# EAGLE library part LSM9DS1 (library LSM9DS1)
iNEMO inertial module: 3D accelerometer, 3D gyroscope, 3D magnetometer Source: Datasheet <https://www.st.com/resource/en/datasheet/lsm9ds1.pdf>
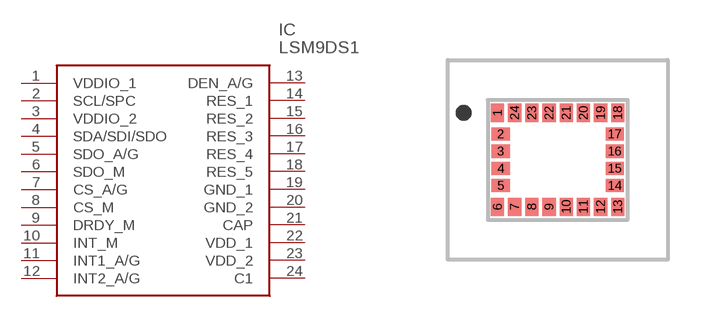
[diagram p0: symbol with the pads of LSM9DS1; footprint LSM9DS1]

Designator prefix IC

## LSM9DS1 (Description: iNEMO inertial module: 3D accelerometer, 3D gyroscope, 3D magnetometer; Height: 1.027mm; Manufacturer_Name: STMicroelectronics; Manufacturer_Part_Number: LSM9DS1)  [LSM9DS1]
1  VDDIO_1
2  SCL/SPC
3  VDDIO_2
4  SDA/SDI/SDO
5  SDO_A/G
6  SDO_M
7  CS_A/G
8  CS_M
9  DRDY_M
10  INT_M
11  INT1_A/G
12  INT2_A/G
13  DEN_A/G
14  RES_1
15  RES_2
16  RES_3
17  RES_4
18  RES_5
19  GND_1
20  GND_2
21  CAP
22  VDD_1
23  VDD_2
24  C1

## Footprint LSM9DS1 (pad centres in mm)
LSM9DS1-1
smd 0.33 x 0.45: 1 -1.505,1.175; 6 -1.505,-1.175; 7 -1.075,-1.175; 8 -0.645,-1.175; 9 -0.215,-1.175; 10 0.215,-1.175; 11 0.645,-1.175; 12 1.075,-1.175; 13 1.505,-1.175; 18 1.505,1.175; 19 1.075,1.175; 20 0.645,1.175; 21 0.215,1.175; 22 -0.215,1.175; 23 -0.645,1.175; 24 -1.075,1.175
smd 0.45 x 0.33: 2 -1.425,0.645; 3 -1.425,0.215; 4 -1.425,-0.215; 5 -1.425,-0.645; 14 1.425,-0.645; 15 1.425,-0.215; 16 1.425,0.215; 17 1.425,0.645